# Altium schematic symbol library 2PinPad.SchLib: 2 symbols
Pins are listed as number, name and electrical type; pins without a type are passive.

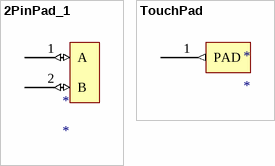
[diagram p0: symbols 2PinPad_1 to TouchPad]

## 2PinPad_1
designator *
footprint 2PinPad_1
pins: 1 A (io), 2 B (io)

## TouchPad
designator *
footprint TouchPad
pins: 1 PAD (out)